# Altium footprint library WR-WTB.PcbLib: 259 footprints (part 2 of 17)
Each footprint in its own frame and in the unit in brackets; x right, y up, seen from the top. Pads: shape width x height; smd on the part's side, far side on the other; paste and mask are expansions set on the pad; w line width, h text height; cw(c..) or ccw(c..) is an arc to the next point about the centre after c.
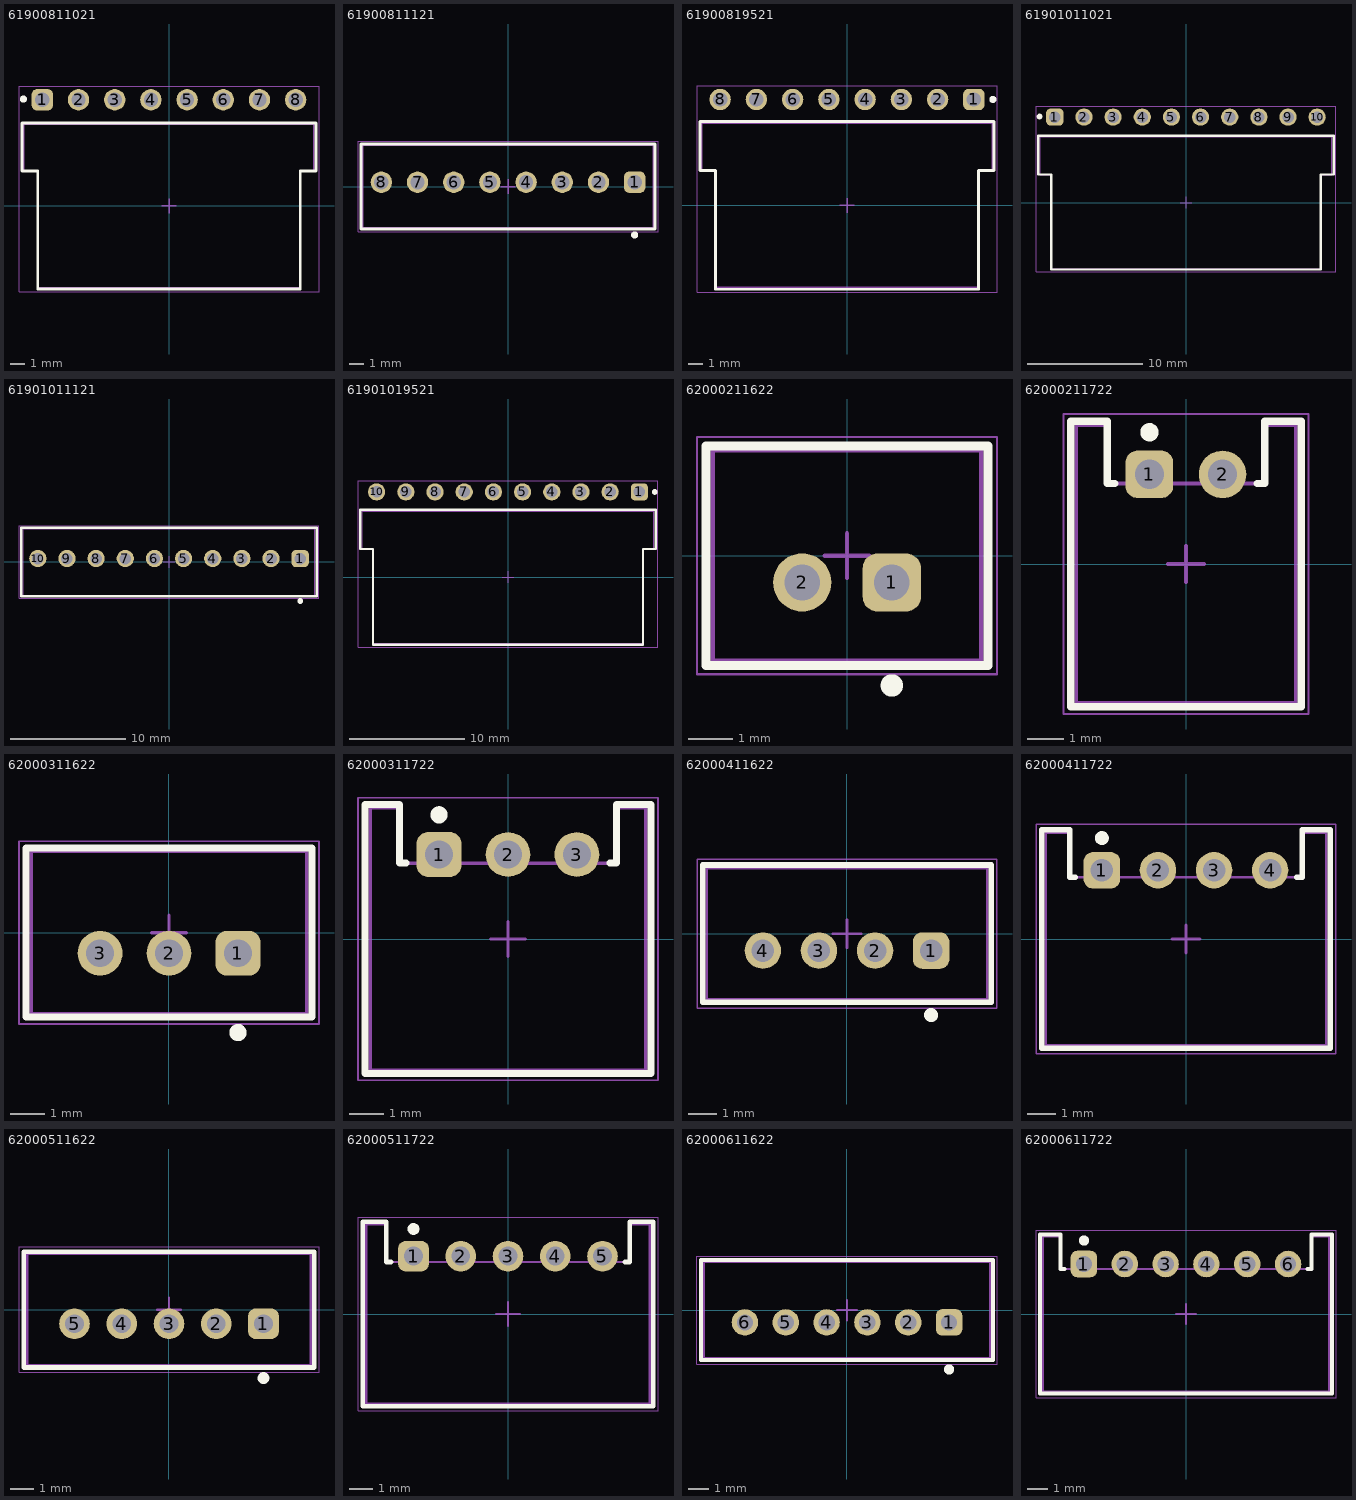
[diagram p1: the footprints below, top view; thin cyan lines are the x and y axes]

## 61900811021 [mm] "2.54mm Male Left Angled Header Bottom Locking, 8p"
height 5.8
pads (8):
  rrect50% 1.5x1.5 hole 1: 1(-8.89,7.45)
  round 1.5 hole 1: 2(-6.35,7.45) 3(-3.81,7.45) 4(-1.27,7.45) 5(1.27,7.45) 6(3.81,7.45) 7(6.35,7.45) 8(8.89,7.45)
Top Overlay:
  circle w0.25: c-10.22,7.5 r0.125
  lines w0.2: -10.33,2.45 -10.33,5.825 10.33,5.825 10.33,2.45 9.21,2.45 9.21,-5.825 -9.21,-5.825 -9.21,2.45 -10.33,2.45
Top Assembly:
  lines w0.1: 10.16,5.75 10.16,2.45 9.19,2.45 9.19,-5.75 -9.21,-5.75 -9.21,2.45 -10.18,2.45 -10.18,5.75 10.18,5.75
Top Designator:
  text ".Designator" at -3.647,-0.357 h1
Top Courtyard:
  lines w0.05: -10.53,-6.025 -10.53,8.4 10.53,8.4 10.53,-6.025 -10.53,-6.025
Top Component Center:
  lines w0.1: -0.5,0 0.5,0 ; 0,-0.5 0,0.5
3D body "61900811021.stp": height 5.83, standoff -3.37, extent -10.17,-5.75 10.15,7.77

## 61900811121 [mm] "2.54mm Male Locking Header, 8p"
height 11.5
pads (8):
  rrect50% 1.5x1.5 hole 1: 1(8.89,0.3)
  round 1.5 hole 1: 2(6.35,0.3) 3(3.81,0.3) 4(1.27,0.3) 5(-1.27,0.3) 6(-3.81,0.3) 7(-6.35,0.3) 8(-8.89,0.3)
Top Overlay:
  circle w0.25: c8.89,-3.4 r0.125
  lines w0.2: -10.33,-2.975 10.33,-2.975 10.33,2.975 -10.33,2.975 -10.33,-2.975
Top Assembly:
  lines w0.1: -10.18,-2.9 -10.18,2.9 10.18,2.9 10.18,-2.9 -10.18,-2.9
Top Designator:
  text ".Designator" at -3.647,-0.357 h1
Top Courtyard:
  lines w0.05: -10.53,-3.175 -10.53,3.175 10.53,3.175 10.53,-3.175 -10.53,-3.175
Top Component Center:
  lines w0.1: -0.5,0 0.5,0 ; 0,-0.5 0,0.5
3D body "61900811121.stp": height 11.53, standoff -3.37, extent -10.16,-2.9 10.16,2.9

## 61900819521 [mm] "2.54mm Male Right Angled Locking Header Top Locking, 8p"
height 5.8
pads (8):
  rrect50% 1.5x1.5 hole 1: 1(8.89,7.42)
  round 1.5 hole 1: 2(6.35,7.42) 3(3.81,7.42) 4(1.27,7.42) 5(-1.27,7.42) 6(-3.81,7.42) 7(-6.35,7.42) 8(-8.89,7.42)
Top Overlay:
  circle w0.25: c10.22,7.42 r0.125
  lines w0.2: -10.31,2.45 -9.21,2.45 -9.21,-5.875 9.21,-5.875 9.21,2.45 10.31,2.45 10.31,5.875 -10.31,5.875 -10.31,2.45
Top Assembly:
  lines w0.1: -10.16,2.45 -9.21,2.45 -9.21,-5.75 9.21,-5.75 9.21,2.45 10.16,2.45 10.16,5.75 -10.16,5.75 -10.16,2.45
Top Designator:
  text ".Designator" at -3.647,-0.357 h1
Top Courtyard:
  lines w0.05: -10.51,-6.075 -10.51,8.37 10.51,8.37 10.51,-6.075 -10.51,-6.075
Top Component Center:
  lines w0.1: -0.5,0 0.5,0 ; 0,-0.5 0,0.5
3D body "61900819521.stp": height 5.83, standoff -3.37, extent -10.16,-5.75 10.16,7.77

## 61901011021 [mm] "2.54mm Male Left Angled Header Bottom Locking, 10p"
height 5.8
pads (10):
  rrect50% 1.5x1.5 hole 1: 1(-11.43,7.45)
  round 1.5 hole 1: 2(-8.89,7.45) 3(-6.35,7.45) 4(-3.81,7.45) 5(-1.27,7.45) 6(1.27,7.45) 7(3.81,7.45) 8(6.35,7.45) 9(8.89,7.45) 10(11.43,7.45)
Top Overlay:
  circle w0.25: c-12.76,7.5 r0.125
  lines w0.2: -12.87,2.45 -11.75,2.45 -11.75,-5.825 11.75,-5.825 11.75,2.45 12.87,2.45 12.87,5.825 -12.87,5.825 -12.87,2.45
Top Assembly:
  lines w0.1: 12.7,5.75 12.7,2.45 11.73,2.45 11.73,-5.75 -11.75,-5.75 -11.75,2.45 -12.72,2.45 -12.72,5.75 12.72,5.75
Top Designator:
  text ".Designator" at -3.647,-0.357 h1
Top Courtyard:
  lines w0.05: -13.07,-6.025 13.07,-6.025 13.07,8.4 -13.07,8.4 -13.07,-6.025
Top Component Center:
  lines w0.1: -0.5,0 0.5,0 ; 0,-0.5 0,0.5
3D body "61901011021.stp": height 5.83, standoff -3.37, extent -12.71,-5.75 12.69,7.77

## 61901011121 [mm] "2.54mm Male Locking Header, 10p"
height 11.5
pads (10):
  rrect50% 1.5x1.5 hole 1: 1(11.43,0.3)
  round 1.5 hole 1: 2(8.89,0.3) 3(6.35,0.3) 4(3.81,0.3) 5(1.27,0.3) 6(-1.27,0.3) 7(-3.81,0.3) 8(-6.35,0.3) 9(-8.89,0.3) 10(-11.43,0.3)
Top Overlay:
  circle w0.25: c11.43,-3.4 r0.125
  lines w0.2: -12.87,-2.975 -12.87,2.975 12.87,2.975 12.87,-2.975 -12.87,-2.975
Top Assembly:
  lines w0.1: -12.72,-2.9 12.72,-2.9 12.72,2.9 -12.72,2.9 -12.72,-2.9
Top Designator:
  text ".Designator" at -3.647,-0.357 h1
Top Courtyard:
  lines w0.05: -13.07,-3.175 13.07,-3.175 13.07,3.175 -13.07,3.175 -13.07,-3.175
Top Component Center:
  lines w0.1: -0.5,0 0.5,0 ; 0,-0.5 0,0.5
3D body "61901011121.stp": height 11.53, standoff -3.37, extent -12.7,-2.9 12.7,2.9

## 61901019521 [mm] "2.54mm Male Right Angled Locking Header Top Locking, 10p"
height 5.8
pads (10):
  rrect50% 1.5x1.5 hole 1: 1(11.43,7.42)
  round 1.5 hole 1: 2(8.89,7.42) 3(6.35,7.42) 4(3.81,7.42) 5(1.27,7.42) 6(-1.27,7.42) 7(-3.81,7.42) 8(-6.35,7.42) 9(-8.89,7.42) 10(-11.43,7.42)
Top Overlay:
  circle w0.25: c12.76,7.42 r0.125
  lines w0.2: -12.85,2.45 -11.75,2.45 -11.75,-5.875 11.75,-5.875 11.75,2.45 12.85,2.45 12.85,5.875 -12.85,5.875 -12.85,2.45
Top Assembly:
  lines w0.1: -12.7,2.45 -11.75,2.45 -11.75,-5.75 11.75,-5.75 11.75,2.45 12.7,2.45 12.7,5.75 -12.7,5.75 -12.7,2.45
Top Designator:
  text ".Designator" at -3.647,-0.357 h1
Top Courtyard:
  lines w0.05: -13.05,-6.075 -13.05,8.37 13.05,8.37 13.05,-6.075 -13.05,-6.075
Top Component Center:
  lines w0.1: -0.5,0 0.5,0 ; 0,-0.5 0,0.5
3D body "61901019521.stp": height 5.83, standoff -3.37, extent -12.7,-5.75 12.7,7.77

## 62000211622 [mm] "2.00mm Male Vertical Shrouded Header, 2p"
height 6.1
pads (2):
  rrect50% 1.3x1.3 hole 0.8: 1(1,-0.6)
  round 1.3 hole 0.8: 2(-1,-0.6)
Top Overlay:
  circle w0.25: c1,-2.9 r0.125
  lines w0.2: -3.15,-2.45 3.15,-2.45 3.15,2.45 -3.15,2.45 -3.15,-2.45
Top Assembly:
  lines w0.1: -3,-2.35 -3,2.35 3,2.35 3,-2.35 -3,-2.35
Top Designator:
  text ".Designator" at -3.647,-0.357 h1
Top Courtyard:
  lines w0.05: -3.35,-2.65 3.35,-2.65 3.35,2.65 -3.35,2.65 -3.35,-2.65
Top Component Center:
  lines w0.1: -0.5,0 0.5,0 ; 0,-0.5 0,0.5
3D body "62000211622.stp": height 6.13, standoff -3.36, extent -3,-2.35 3,2.35

## 62000211722 [mm] "2.00mm Male Horizontal Shrouded Header, 2p"
height 4.5
pads (2):
  rrect50% 1.3x1.3 hole 0.8: 1(-1,2.45)
  round 1.3 hole 0.8: 2(1,2.45)
Top Overlay:
  circle w0.25: c-1,3.6 r0.125
  lines w0.2: -1.95,2.2 -2.15,2.2 -2.15,3.9 -3.15,3.9 -3.15,-3.9 3.15,-3.9 3.15,3.9 2.15,3.9 2.15,2.2 1.95,2.2
Top Assembly:
  lines w0.1: -3,-3.8 3,-3.8 3,3.8 2.15,3.8 2.15,2.2 -2.15,2.2 -2.15,3.8 -3,3.8 -3,-3.8
Top Designator:
  text ".Designator" at -3.647,-0.357 h1
Top Courtyard:
  lines w0.05: -3.35,-4.1 -3.35,4.1 3.35,4.1 3.35,-4.1 -3.35,-4.1
Top Component Center:
  lines w0.1: -0.5,0 0.5,0 ; 0,-0.5 0,0.5
3D body "62000211722.stp": height 4.83, standoff -3.27, extent -3,-3.8 3,3.8

## 62000311622 [mm] "2.00mm Male Vertical Shrouded Header, 3p"
height 6.1
pads (3):
  rrect50% 1.3x1.3 hole 0.8: 1(2,-0.6)
  round 1.3 hole 0.8: 2(0,-0.6) 3(-2,-0.6)
Top Overlay:
  circle w0.25: c2,-2.9 r0.125
  lines w0.2: -4.15,-2.45 -4.15,2.45 4.15,2.45 4.15,-2.45 -4.15,-2.45
Top Assembly:
  lines w0.1: -4,-2.35 4,-2.35 4,2.35 -4,2.35 -4,-2.35
Top Designator:
  text ".Designator" at -3.647,-0.357 h1
Top Courtyard:
  lines w0.05: -4.35,-2.65 -4.35,2.65 4.35,2.65 4.35,-2.65 -4.35,-2.65
Top Component Center:
  lines w0.1: -0.5,0 0.5,0 ; 0,-0.5 0,0.5
3D body "62000311622.stp": height 6.13, standoff -3.37, extent -4,-2.35 4,2.35

## 62000311722 [mm] "2.00mm Male Horizontal Shrouded Header, 3p"
height 4.5
pads (3):
  rrect50% 1.3x1.3 hole 0.8: 1(-2,2.45)
  round 1.3 hole 0.8: 2(0,2.45) 3(2,2.45)
Top Overlay:
  circle w0.25: c-2,3.6 r0.125
  lines w0.2: -2.95,2.2 -3.15,2.2 -3.15,3.9 -4.15,3.9 -4.15,-3.9 4.15,-3.9 4.15,3.9 3.15,3.9 3.15,2.2 2.95,2.2
Top Assembly:
  lines w0.1: -4,-3.8 4,-3.8 4,3.8 3.15,3.8 3.15,2.2 -3.15,2.2 -3.15,3.8 -4,3.8 -4,-3.8
Top Designator:
  text ".Designator" at -3.647,-0.357 h1
Top Courtyard:
  lines w0.05: -4.35,-4.1 -4.35,4.1 4.35,4.1 4.35,-4.1 -4.35,-4.1
Top Component Center:
  lines w0.1: -0.5,0 0.5,0 ; 0,-0.5 0,0.5
3D body "62000311722.stp": height 4.83, standoff -3.27, extent -4,-3.8 4,3.8

## 62000411622 [mm] "2.00mm Male Vertical Shrouded Header, 4p"
height 6.1
pads (4):
  rrect50% 1.3x1.3 hole 0.8: 1(3,-0.6)
  round 1.3 hole 0.8: 2(1,-0.6) 3(-1,-0.6) 4(-3,-0.6)
Top Overlay:
  circle w0.25: c3,-2.9 r0.125
  lines w0.2: -5.15,-2.45 -5.15,2.45 5.15,2.45 5.15,-2.45 -5.15,-2.45
Top Assembly:
  lines w0.1: -5,-2.35 5,-2.35 5,2.35 -5,2.35 -5,-2.35
Top Designator:
  text ".Designator" at -3.647,-0.357 h1
Top Courtyard:
  lines w0.05: -5.35,-2.65 -5.35,2.65 5.35,2.65 5.35,-2.65 -5.35,-2.65
Top Component Center:
  lines w0.1: -0.5,0 0.5,0 ; 0,-0.5 0,0.5
3D body "62000411622.stp": height 6.13, standoff -3.37, extent -5,-2.35 5,2.35

## 62000411722 [mm] "2.00mm Male Horizontal Shrouded Header, 4p"
height 4.5
pads (4):
  rrect50% 1.3x1.3 hole 0.8: 1(-3,2.45)
  round 1.3 hole 0.8: 2(-1,2.45) 3(1,2.45) 4(3,2.45)
Top Overlay:
  circle w0.25: c-3,3.6 r0.125
  lines w0.2: -3.95,2.2 -4.15,2.2 -4.15,3.9 -5.15,3.9 -5.15,-3.9 5.15,-3.9 5.15,3.9 4.15,3.9 4.15,2.2 3.95,2.2
Top Assembly:
  lines w0.1: -5,-3.8 -5,3.8 -4.15,3.8 -4.15,2.2 4.15,2.2 4.15,3.8 5,3.8 5,-3.8 -5,-3.8
Top Designator:
  text ".Designator" at -3.647,-0.357 h1
Top Courtyard:
  lines w0.05: -5.35,-4.1 5.35,-4.1 5.35,4.1 -5.35,4.1 -5.35,-4.1
Top Component Center:
  lines w0.1: -0.5,0 0.5,0 ; 0,-0.5 0,0.5
3D body "62000411722.stp": height 4.83, standoff -3.27, extent -5,-3.8 5,3.8

## 62000511622 [mm] "2.00mm Male Vertical Shrouded Header, 5p"
height 6.1
pads (5):
  rrect50% 1.3x1.3 hole 0.8: 1(4,-0.6)
  round 1.3 hole 0.8: 2(2,-0.6) 3(0,-0.6) 4(-2,-0.6) 5(-4,-0.6)
Top Overlay:
  circle w0.25: c4,-2.9 r0.125
  lines w0.2: -6.15,-2.45 6.15,-2.45 6.15,2.45 -6.15,2.45 -6.15,-2.45
Top Assembly:
  lines w0.1: -6,-2.35 -6,2.35 6,2.35 6,-2.35 -6,-2.35
Top Designator:
  text ".Designator" at -3.647,-0.357 h1
Top Courtyard:
  lines w0.05: -6.35,-2.65 6.35,-2.65 6.35,2.65 -6.35,2.65 -6.35,-2.65
Top Component Center:
  lines w0.1: -0.5,0 0.5,0 ; 0,-0.5 0,0.5
3D body "62000511622.stp": height 6.13, standoff -3.37, extent -6,-2.35 6,2.35

## 62000511722 [mm] "2.00mm Male Horizontal Shrouded Header, 5p"
height 4.5
pads (5):
  rrect50% 1.3x1.3 hole 0.8: 1(-4,2.45)
  round 1.3 hole 0.8: 2(-2,2.45) 3(0,2.45) 4(2,2.45) 5(4,2.45)
Top Overlay:
  circle w0.25: c-4,3.6 r0.125
  lines w0.2: -4.95,2.2 -5.15,2.2 -5.15,3.9 -6.15,3.9 -6.15,-3.9 6.15,-3.9 6.15,3.9 5.15,3.9 5.15,2.2 4.95,2.2
Top Assembly:
  lines w0.1: -6,-3.8 6,-3.8 6,3.8 5.15,3.8 5.15,2.2 -5.15,2.2 -5.15,3.8 -6,3.8 -6,-3.8
Top Designator:
  text ".Designator" at -3.647,-0.357 h1
Top Courtyard:
  lines w0.05: -6.35,-4.1 -6.35,4.1 6.35,4.1 6.35,-4.1 -6.35,-4.1
Top Component Center:
  lines w0.1: -0.5,0 0.5,0 ; 0,-0.5 0,0.5
3D body "62000511722.stp": height 4.83, standoff -3.27, extent -6,-3.8 6,3.8

## 62000611622 [mm] "2.00mm Male Vertical Shrouded Header, 6p"
height 6.1
pads (6):
  rrect50% 1.3x1.3 hole 0.8: 1(5,-0.6)
  round 1.3 hole 0.8: 2(3,-0.6) 3(1,-0.6) 4(-1,-0.6) 5(-3,-0.6) 6(-5,-0.6)
Top Overlay:
  circle w0.25: c5,-2.9 r0.125
  lines w0.2: -7.15,-2.45 -7.15,2.45 7.15,2.45 7.15,-2.45 -7.15,-2.45
Top Assembly:
  lines w0.1: -7,-2.35 7,-2.35 7,2.35 -7,2.35 -7,-2.35
Top Designator:
  text ".Designator" at -3.647,-0.357 h1
Top Courtyard:
  lines w0.05: -7.35,-2.65 -7.35,2.65 7.35,2.65 7.35,-2.65 -7.35,-2.65
Top Component Center:
  lines w0.1: -0.5,0 0.5,0 ; 0,-0.5 0,0.5
3D body "62000611622.stp": height 6.13, standoff -3.37, extent -7,-2.35 7,2.35

## 62000611722 [mm] "2.00mm Male Horizontal Shrouded Header, 6p"
height 4.5
pads (6):
  rrect50% 1.3x1.3 hole 0.8: 1(-5,2.45)
  round 1.3 hole 0.8: 2(-3,2.45) 3(-1,2.45) 4(1,2.45) 5(3,2.45) 6(5,2.45)
Top Overlay:
  circle w0.25: c-5,3.6 r0.125
  lines w0.2: -5.95,2.2 -6.15,2.2 -6.15,3.9 -7.15,3.9 -7.15,-3.9 7.15,-3.9 7.15,3.9 6.15,3.9 6.15,2.2 5.95,2.2
Top Assembly:
  lines w0.1: -7,-3.8 7,-3.8 7,3.8 6.15,3.8 6.15,2.2 -6.15,2.2 -6.15,3.8 -7,3.8 -7,-3.8
Top Designator:
  text ".Designator" at -3.647,-0.357 h1
Top Courtyard:
  lines w0.05: -7.35,-4.1 -7.35,4.1 7.35,4.1 7.35,-4.1 -7.35,-4.1
Top Component Center:
  lines w0.1: -0.5,0 0.5,0 ; 0,-0.5 0,0.5
3D body "62000611722.stp": height 4.83, standoff -3.27, extent -7,-3.8 7,3.8